# EAGLE library part ATTINY404-SSNR (library attiny404)
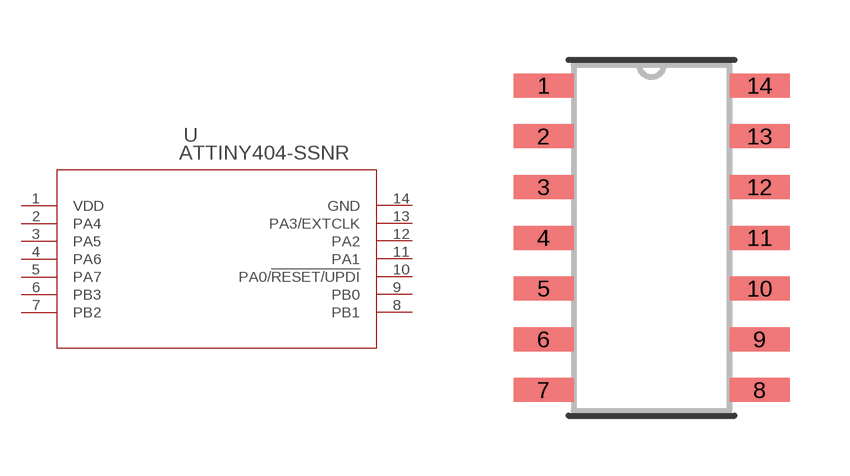
[diagram p0: symbol with the pads of SOIC14_SL_MCH; footprint SOIC14_SL_MCH]

Designator prefix U

## ATTINY404-SSNRSOIC14_SL_MCH (Copyright: Copyright (C) 2023 Ultra Librarian. All rights reserved.; Manufacturer_Part_Number: ATTINY404-SSNR; Mfr_Name: Microchip)  [SOIC14_SL_MCH]
1  VDD  pwr
2  PA4
3  PA5
4  PA6
5  PA7
6  PB3
7  PB2
8  PB1
9  PB0
10  PA0/!RESET/UPDI
11  PA1
12  PA2
13  PA3/EXTCLK
14  GND  pas

## Footprint SOIC14_SL_MCH (pad centres in mm)
smd 1.5 x 0.6: 1 -2.7,3.81; 2 -2.7,2.54; 3 -2.7,1.27; 4 -2.7,0; 5 -2.7,-1.27; 6 -2.7,-2.54; 7 -2.7,-3.81; 8 2.7,-3.81; 9 2.7,-2.54; 10 2.7,-1.27; 11 2.7,0; 12 2.7,1.27; 13 2.7,2.54; 14 2.7,3.81